# EAGLE library part ZR_S10B-ZR (library CASE-JST)
JST ZR Connector, through hole, 10 pin, side entry Description: JST ZR connector with 1.5 mm pitch, through hole version, 10 pin, side entry. Links: Datasheet <http://www.jst-mfg.com/product/pdf/eng/eZH.pdf>
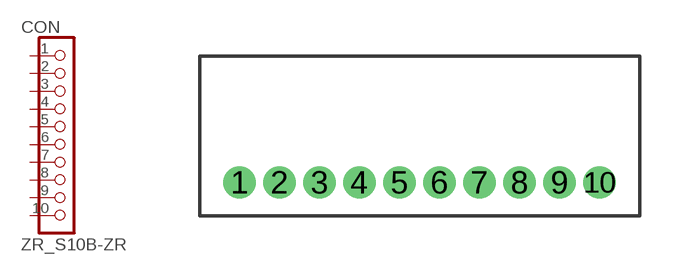
[diagram p7: symbol with the pads of S10B-ZR; footprint S10B-ZR]

Designator prefix CON

## ZR_S10B-ZR  [S10B-ZR]
1  1  pas
2  2  pas
3  3  pas
4  4  pas
5  5  pas
6  6  pas
7  7  pas
8  8  pas
9  9  pas
10  10  pas

## Footprint S10B-ZR (pad centres in mm)
JST S10B-ZR Datasheet <http://www.jst-mfg.com/product/pdf/eng/eZH.pdf>
drill 0.7: 1 -6.75,0; 2 -5.25,0; 3 -3.75,0; 4 -2.25,0; 5 -0.75,0; 6 0.75,0; 7 2.25,0; 8 3.75,0; 9 5.25,0; 10 6.75,0